# Altium footprint library QFN.PcbLib: 33 footprints (part 1 of 3)
Each footprint in its own frame and in the unit in brackets; x right, y up, seen from the top. Pads: shape width x height; smd on the part's side, far side on the other; paste and mask are expansions set on the pad; w line width, h text height; cw(c..) or ccw(c..) is an arc to the next point about the centre after c.
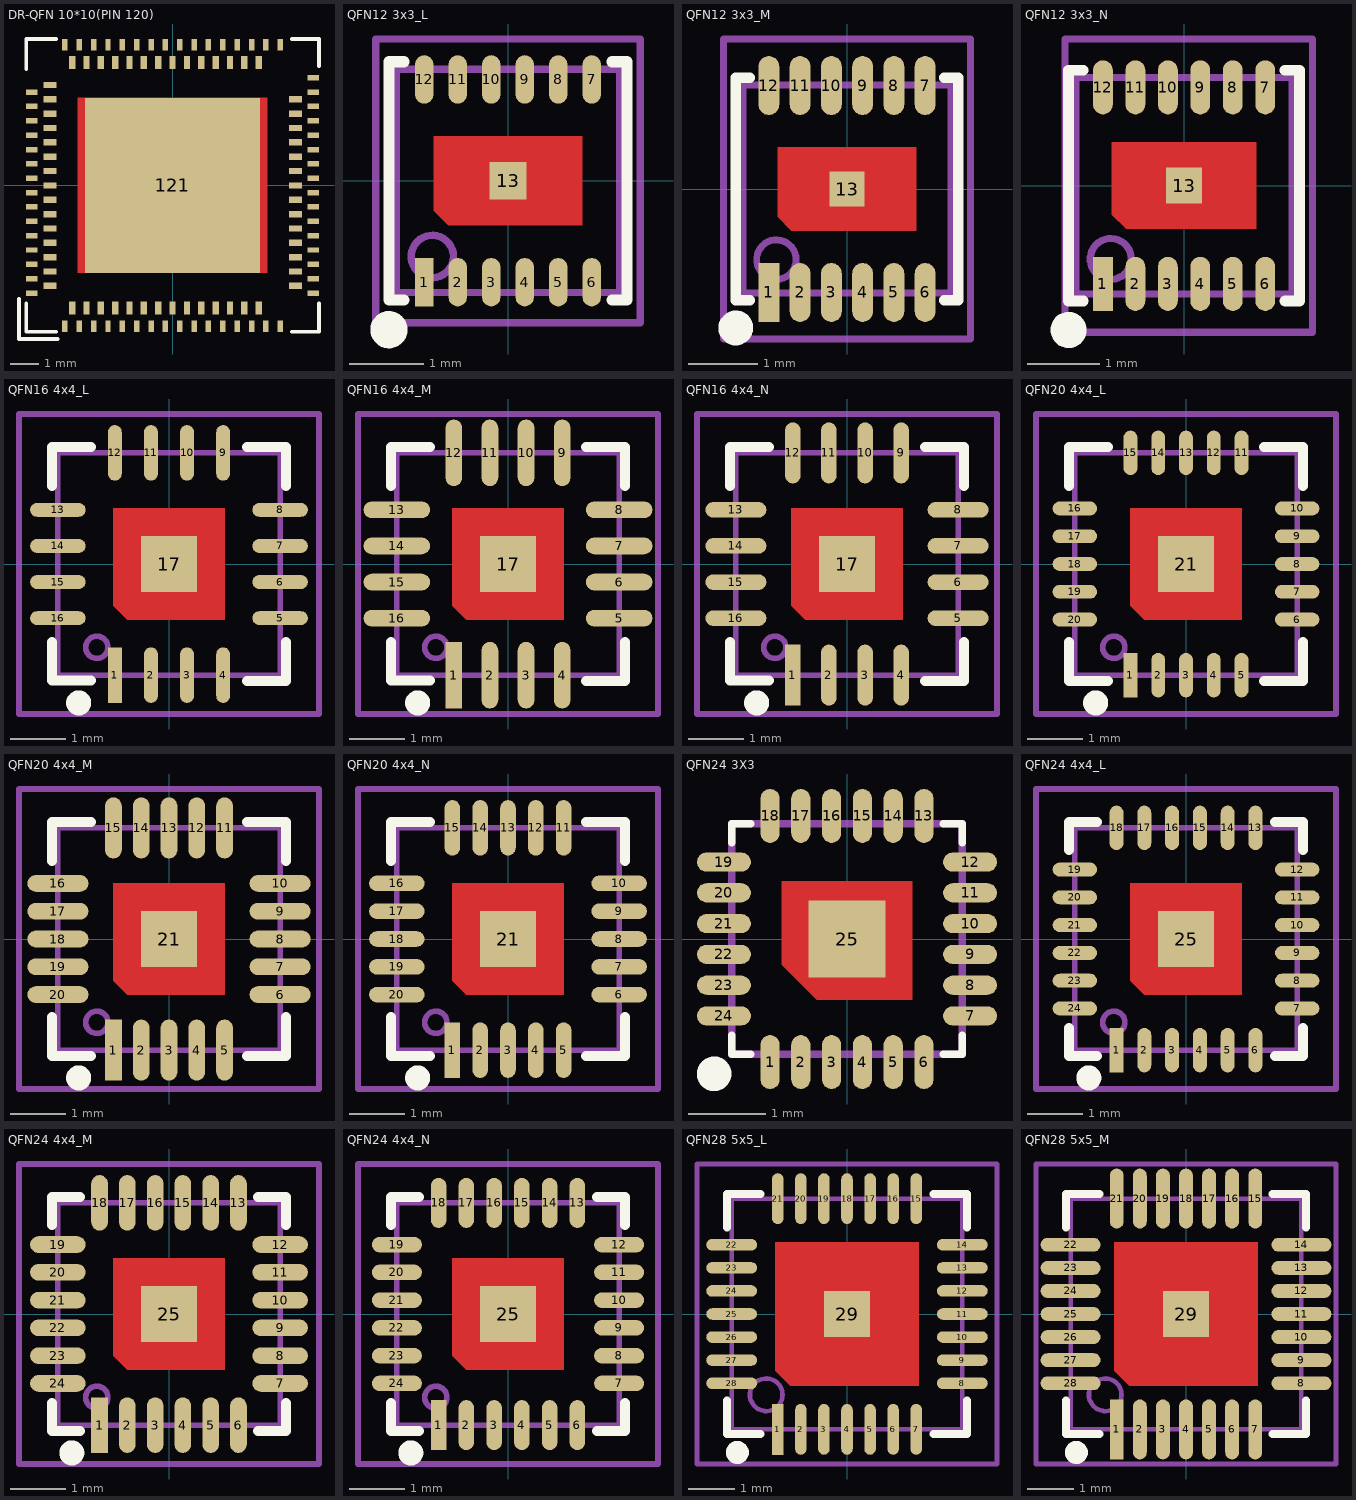
[diagram p0: the footprints below, top view; thin cyan lines are the x and y axes]

## DR-QFN 10*10(PIN 120) [mm]
height 0.9
pads (121):
  rect 0.19x0.4 smd: 1(-3.75,-4.9) 3(-3.25,-4.9) 5(-2.75,-4.9) 7(-2.25,-4.9) 9(-1.75,-4.9) 11(-1.25,-4.9) 13(-0.75,-4.9) 15(-0.25,-4.9) 17(0.25,-4.9) 19(0.75,-4.9) 21(1.25,-4.9) 23(1.75,-4.9) 25(2.25,-4.9) 27(2.75,-4.9) 29(3.25,-4.9) 30(3.75,-4.9) 61(3.75,4.9) 62(3.25,4.9) 64(2.75,4.9) 66(2.25,4.9) 68(1.75,4.9) 70(1.25,4.9) 72(0.75,4.9) 74(0.25,4.9) 76(-0.25,4.9) 78(-0.75,4.9) 80(-1.25,4.9) 82(-1.75,4.9) 84(-2.25,4.9) 86(-2.75,4.9) 88(-3.25,4.9) 90(-3.75,4.9)
  rect 0.22x0.45 smd: 2(-3.5,-4.275) 4(-3,-4.275) 6(-2.5,-4.275) 8(-2,-4.275) 10(-1.5,-4.275) 12(-1,-4.275) 14(-0.5,-4.275) 16(0,-4.275) 18(0.5,-4.275) 20(1,-4.275) 22(1.5,-4.275) 24(2,-4.275) 26(2.5,-4.275) 28(3,-4.275) 63(3,4.275) 65(2.5,4.275) 67(2,4.275) 69(1.5,4.275) 71(1,4.275) 73(0.5,4.275) 75(0,4.275) 77(-0.5,4.275) 79(-1,4.275) 81(-1.5,4.275) 83(-2,4.275) 85(-2.5,4.275) 87(-3,4.275) 89(-3.5,4.275)
  rect 0.4x0.19 smd: 31(4.9,-3.75) 33(4.9,-3.25) 35(4.9,-2.75) 37(4.9,-2.25) 39(4.9,-1.75) 41(4.9,-1.25) 43(4.9,-0.75) 45(4.9,-0.25) 47(4.9,0.25) 49(4.9,0.75) 51(4.9,1.25) 53(4.9,1.75) 55(4.9,2.25) 57(4.9,2.75) 59(4.9,3.25) 60(4.9,3.75) 92(-4.9,3.25) 94(-4.9,2.75) 96(-4.9,2.25) 98(-4.9,1.75) 100(-4.9,1.25) 102(-4.9,0.75) 104(-4.9,0.25) 106(-4.9,-0.25) 108(-4.9,-0.75) 110(-4.9,-1.25) 112(-4.9,-1.75) 114(-4.9,-2.25) 116(-4.9,-2.75) 118(-4.9,-3.25) 120(-4.9,-3.75)
  rect 0.45x0.22 smd: 32(4.275,-3.5) 34(4.275,-3) 36(4.275,-2.5) 38(4.275,-2) 40(4.275,-1.5) 42(4.275,-1) 44(4.275,-0.5) 46(4.275,0) 48(4.275,0.5) 50(4.275,1) 52(4.275,1.5) 54(4.275,2) 56(4.275,2.5) 58(4.275,3) 91(-4.275,3.5) 93(-4.275,3) 95(-4.275,2.5) 97(-4.275,2) 99(-4.275,1.5) 101(-4.275,1) 103(-4.275,0.5) 105(-4.275,0) 107(-4.275,-0.5) 109(-4.275,-1) 111(-4.275,-1.5) 113(-4.275,-2) 115(-4.275,-2.5) 117(-4.275,-3) 119(-4.275,-3.5)
  rect 6.1x6.1 smd: 121(0,0)
Top Layer:
  region: 3.3,3.05 -3.3,3.05 -3.3,-3.05 3.3,-3.05
Top Overlay:
  lines w0.127: -5.35,-3.95 -5.35,-5.35 -4,-5.35 ; -5.1,-4.1 -5.1,-5.1 -4.05,-5.1 ; -5.1,4.05 -5.1,5.1 -4.05,5.1 ; 4.15,-5.1 5.1,-5.1 5.1,-4.1 ; 4.15,5.1 5.1,5.1 5.1,4.15
Top Paste:
  region: -3.05,-1.2 -0.2,-1.2 -0.2,-2.8 -3.05,-2.8
  region: 0.2,-1.2 3.05,-1.2 3.05,-2.8 0.2,-2.8
  region: -3.05,0.8 -0.2,0.8 -0.2,-0.8 -3.05,-0.8
  region: 0.2,0.8 3.05,0.8 3.05,-0.8 0.2,-0.8
  region: -3.05,2.8 -0.2,2.8 -0.2,1.2 -3.05,1.2
  region: 0.2,2.8 3.05,2.8 3.05,1.2 0.2,1.2

## QFN12 3x3_L [mm] "12脚，长x宽x高：3x3x0.6mm，脚距：0.45mm"
pads (13):
  rect 0.25x0.65 smd: 1(-1.125,-1.362)
  oval 0.25x0.65 smd: 2(-0.675,-1.362) 3(-0.225,-1.362) 4(0.225,-1.362) 5(0.675,-1.362) 6(1.125,-1.362) 7(1.125,1.362) 8(0.675,1.362) 9(0.225,1.362) 10(-0.225,1.362) 11(-0.675,1.362) 12(-1.125,1.362)
  rect 0.5x0.5 smd: 13(0,0)
Top Layer:
  region: -1,0.6 1,0.6 1,-0.6 -0.8,-0.6 -1,-0.4
Top Overlay:
  circle w0.25: c-1.6,-2 r0.125
  lines w0.15: -1.397,-1.6 -1.6,-1.6 -1.6,1.6 -1.397,1.6 ; 1.397,-1.6 1.6,-1.6 1.6,1.6 1.397,1.6
Mechanical 13:
  circle w0.1: c-1.016,-1.016 r0.284
  lines w0.1: 1.5,-1.5 -1.49,-1.5 -1.5,-1.51 -1.5,1.5 1.5,1.5 ; 1.5,-1.5 1.5,-1.5 ; 1.5,-1.5 1.5,1.5 ; 1.5,1.5 1.5,1.5
Mechanical 15:
  circle w0.05: c0,0 r0.35
  lines w0.05: -0.5,0 0.5,0 ; 0,-0.5 0,0.5
  lines w0.1: -1.778,-1.905 -1.778,1.905 1.778,1.905 1.778,-1.905 -1.778,-1.905
3D body "QFN12 3x3.STEP": height 0.63, standoff 0, extent -1.5,-1.501 1.5,1.501

## QFN12 3x3_M [mm] "12脚，长x宽x高：3x3x0.6mm，脚距：0.45mm"
pads (13):
  rect 0.3x0.85 smd: 1(-1.125,-1.489)
  oval 0.3x0.85 smd: 2(-0.675,-1.489) 3(-0.225,-1.489) 4(0.225,-1.489) 5(0.675,-1.489) 6(1.125,-1.489) 7(1.125,1.489) 8(0.675,1.489) 9(0.225,1.489) 10(-0.225,1.489) 11(-0.675,1.489) 12(-1.125,1.489)
  rect 0.5x0.5 smd: 13(0,0)
Top Layer:
  region: -1,0.6 1,0.6 1,-0.6 -0.8,-0.6 -1,-0.4
Top Overlay:
  circle w0.25: c-1.6,-2 r0.125
  lines w0.15: -1.397,-1.6 -1.6,-1.6 -1.6,1.6 -1.397,1.6 ; 1.397,-1.6 1.6,-1.6 1.6,1.6 1.397,1.6
Mechanical 13:
  circle w0.1: c-1.016,-1.016 r0.284
  lines w0.1: 1.5,-1.5 1.5,1.5 ; 1.5,-1.5 1.5,-1.5 ; 1.5,-1.5 -1.49,-1.5 -1.5,-1.51 -1.5,1.5 1.5,1.5 ; 1.5,1.5 1.5,1.5
Mechanical 15:
  circle w0.05: c0,0 r0.35
  lines w0.05: -0.5,0 0.5,0 ; 0,-0.5 0,0.5
  lines w0.1: -1.778,-2.159 -1.778,2.159 1.778,2.159 1.778,-2.159 -1.778,-2.159
3D body "QFN12 3x3.STEP": height 0.63, standoff 0, extent -1.5,-1.501 1.5,1.501

## QFN12 3x3_N [mm] "12脚，长x宽x高：3x3x0.6mm，脚距：0.45mm"
pads (13):
  rect 0.275x0.75 smd: 1(-1.125,-1.362)
  oval 0.275x0.75 smd: 2(-0.675,-1.362) 3(-0.225,-1.362) 4(0.225,-1.362) 5(0.675,-1.362) 6(1.125,-1.362) 7(1.125,1.362) 8(0.675,1.362) 9(0.225,1.362) 10(-0.225,1.362) 11(-0.675,1.362) 12(-1.125,1.362)
  rect 0.5x0.5 smd: 13(0,0)
Top Layer:
  region: -1,0.6 1,0.6 1,-0.6 -0.8,-0.6 -1,-0.4
Top Overlay:
  circle w0.25: c-1.6,-2 r0.125
  lines w0.15: -1.397,-1.6 -1.6,-1.6 -1.6,1.6 -1.397,1.6 ; 1.397,-1.6 1.6,-1.6 1.6,1.6 1.397,1.6
Mechanical 13:
  circle w0.1: c-1.016,-1.016 r0.284
  lines w0.1: 1.5,-1.5 -1.49,-1.5 -1.5,-1.51 -1.5,1.5 1.5,1.5 ; 1.5,-1.5 1.5,-1.5 ; 1.5,-1.5 1.5,1.5 ; 1.5,1.5 1.5,1.5
Mechanical 15:
  circle w0.05: c0,0 r0.35
  lines w0.05: -0.5,0 0.5,0 ; 0,-0.5 0,0.5
  lines w0.1: -1.651,-2.032 -1.651,2.032 1.778,2.032 1.778,-2.032 -1.651,-2.032
3D body "QFN12 3x3.STEP": height 0.63, standoff 0, extent -1.5,-1.501 1.5,1.501

## QFN16 4x4_L [mm] "16脚，长x宽x高：4x4x0.8mm，脚距：0.65mm"
pads (17):
  rect 0.25x1 smd: 1(-0.975,-2)
  oval 0.25x1 smd: 2(-0.325,-2) 3(0.325,-2) 4(0.975,-2) 9(0.975,2) 10(0.325,2) 11(-0.325,2) 12(-0.975,2)
  oval 1x0.25 smd: 5(2,-0.975) 6(2,-0.325) 7(2,0.325) 8(2,0.975) 13(-2,0.975) 14(-2,0.325) 15(-2,-0.325) 16(-2,-0.975)
  rect 1x1 smd: 17(0,0)
Top Layer:
  region: -1,1 1,1 1,-1 -0.75,-1 -1,-0.75
Top Overlay:
  circle w0.25: c-1.625,-2.5 r0.1
  lines w0.178: -2.106,-1.404 -2.106,-2.1 -1.404,-2.1 ; -2.106,1.404 -2.106,2.106 -1.404,2.106 ; 1.404,-2.106 2.106,-2.106 2.106,-1.404 ; 1.404,2.106 2.106,2.106 2.106,1.404
Mechanical 13:
  circle w0.1: c-1.3,-1.5 r0.2
  lines w0.1: -2,-2 -2,2 2,2 2,-2 -2,-2
Mechanical 15:
  circle w0.05: c0,0 r0.35
  lines w0.05: -0.5,0 0.5,0 ; 0,-0.5 0,0.5
  lines w0.1: -2.7,-2.7 2.7,-2.7 2.7,2.7 -2.7,2.7 -2.7,-2.7
3D body "QFN16-4X4.STEP": height 0.75, standoff -0.05, extent -2.01,-2.01 2.01,2.01

## QFN16 4x4_M [mm] "16脚，长x宽x高：4x4x0.8mm，脚距：0.65mm"
pads (17):
  rect 0.3x1.2 smd: 1(-0.975,-2)
  oval 0.3x1.2 smd: 2(-0.325,-2) 3(0.325,-2) 4(0.975,-2) 9(0.975,2) 10(0.325,2) 11(-0.325,2) 12(-0.975,2)
  oval 1.2x0.3 smd: 5(2,-0.975) 6(2,-0.325) 7(2,0.325) 8(2,0.975) 13(-2,0.975) 14(-2,0.325) 15(-2,-0.325) 16(-2,-0.975)
  rect 1x1 smd: 17(0,0)
Top Layer:
  region: -1,1 1,1 1,-1 -0.75,-1 -1,-0.75
Top Overlay:
  circle w0.25: c-1.625,-2.5 r0.1
  lines w0.178: -2.106,-1.404 -2.106,-2.1 -1.404,-2.1 ; -2.106,1.404 -2.106,2.106 -1.404,2.106 ; 1.404,-2.106 2.106,-2.106 2.106,-1.404 ; 1.404,2.106 2.106,2.106 2.106,1.404
Mechanical 13:
  circle w0.1: c-1.3,-1.5 r0.2
  lines w0.1: -2,-2 -2,2 2,2 2,-2 -2,-2
Mechanical 15:
  circle w0.05: c0,0 r0.35
  lines w0.05: -0.5,0 0.5,0 ; 0,-0.5 0,0.5
  lines w0.1: -2.7,-2.7 2.7,-2.7 2.7,2.7 -2.7,2.7 -2.7,-2.7
3D body "QFN16-4X4.STEP": height 0.75, standoff -0.05, extent -2.01,-2.01 2.01,2.01

## QFN16 4x4_N [mm] "16脚，长x宽x高：4x4x0.8mm，脚距：0.65mm"
pads (17):
  rect 0.28x1.1 smd: 1(-0.975,-2)
  oval 0.28x1.1 smd: 2(-0.325,-2) 3(0.325,-2) 4(0.975,-2) 9(0.975,2) 10(0.325,2) 11(-0.325,2) 12(-0.975,2)
  oval 1.1x0.28 smd: 5(2,-0.975) 6(2,-0.325) 7(2,0.325) 8(2,0.975) 13(-2,0.975) 14(-2,0.325) 15(-2,-0.325) 16(-2,-0.975)
  rect 1x1 smd: 17(0,0)
Top Layer:
  region: -1,1 1,1 1,-1 -0.75,-1 -1,-0.75
Top Overlay:
  circle w0.25: c-1.625,-2.5 r0.1
  lines w0.178: -2.106,-1.404 -2.106,-2.1 -1.404,-2.1 ; -2.106,1.404 -2.106,2.106 -1.404,2.106 ; 1.404,-2.106 2.106,-2.106 2.106,-1.404 ; 1.404,2.106 2.106,2.106 2.106,1.404
Mechanical 13:
  circle w0.1: c-1.3,-1.5 r0.2
  lines w0.1: -2,-2 -2,2 2,2 2,-2 -2,-2
Mechanical 15:
  circle w0.05: c0,0 r0.35
  lines w0.05: -0.5,0 0.5,0 ; 0,-0.5 0,0.5
  lines w0.1: -2.7,-2.7 2.7,-2.7 2.7,2.7 -2.7,2.7 -2.7,-2.7
3D body "QFN16-4X4.STEP": height 0.75, standoff -0.05, extent -2.01,-2.01 2.01,2.01

## QFN20 4x4_L [mm] "20脚，长x宽x高：4x4x0.95mm，脚距：0.5mm"
pads (21):
  rect 0.25x0.8 smd: 1(-1,-2)
  oval 0.25x0.8 smd: 2(-0.5,-2) 3(0,-2) 4(0.5,-2) 5(1,-2) 11(1,2) 12(0.5,2) 13(0,2) 14(-0.5,2) 15(-1,2)
  oval 0.8x0.25 smd: 6(2,-1) 7(2,-0.5) 8(2,0) 9(2,0.5) 10(2,1) 16(-2,1) 17(-2,0.5) 18(-2,0) 19(-2,-0.5) 20(-2,-1)
  rect 1x1 smd: 21(0,0)
Top Layer:
  region: -1,1 1,1 1,-1 -0.75,-1 -1,-0.75
Top Overlay:
  circle w0.25: c-1.625,-2.5 r0.1
  lines w0.178: -2.106,-1.404 -2.106,-2.106 -1.404,-2.106 ; -2.106,1.404 -2.106,2.106 -1.404,2.106 ; 1.404,-2.106 2.106,-2.106 2.106,-1.404 ; 1.404,2.106 2.106,2.106 2.106,1.404
Mechanical 13:
  circle w0.1: c-1.3,-1.5 r0.2
  lines w0.1: -2,-2 -2,2 2,2 2,-2 -2,-2
Mechanical 15:
  circle w0.05: c0,0 r0.35
  lines w0.05: -0.5,0 0.5,0 ; 0,-0.5 0,0.5
  lines w0.1: -2.7,-2.7 2.7,-2.7 2.7,2.7 -2.7,2.7 -2.7,-2.7
3D body "QFN20-4X4.STEP": height 0.95, standoff -0.05, extent -2.01,-2.01 2.01,2.01

## QFN20 4x4_M [mm] "20脚，长x宽x高：4x4x0.95mm，脚距：0.5mm"
pads (21):
  rect 0.3x1.1 smd: 1(-1,-2)
  oval 0.3x1.1 smd: 2(-0.5,-2) 3(0,-2) 4(0.5,-2) 5(1,-2) 11(1,2) 12(0.5,2) 13(0,2) 14(-0.5,2) 15(-1,2)
  oval 1.1x0.3 smd: 6(2,-1) 7(2,-0.5) 8(2,0) 9(2,0.5) 10(2,1) 16(-2,1) 17(-2,0.5) 18(-2,0) 19(-2,-0.5) 20(-2,-1)
  rect 1x1 smd: 21(0,0)
Top Layer:
  region: -1,1 1,1 1,-1 -0.75,-1 -1,-0.75
Top Overlay:
  circle w0.25: c-1.625,-2.5 r0.1
  lines w0.178: -2.106,-1.404 -2.106,-2.106 -1.404,-2.106 ; -2.106,1.404 -2.106,2.106 -1.404,2.106 ; 1.404,-2.106 2.106,-2.106 2.106,-1.404 ; 1.404,2.106 2.106,2.106 2.106,1.404
Mechanical 13:
  circle w0.1: c-1.3,-1.5 r0.2
  lines w0.1: -2,-2 -2,2 2,2 2,-2 -2,-2
Mechanical 15:
  circle w0.05: c0,0 r0.35
  lines w0.05: -0.5,0 0.5,0 ; 0,-0.5 0,0.5
  lines w0.1: -2.7,-2.7 2.7,-2.7 2.7,2.7 -2.7,2.7 -2.7,-2.7
3D body "QFN20-4X4.STEP": height 0.95, standoff -0.05, extent -2.01,-2.01 2.01,2.01

## QFN20 4x4_N [mm] "20脚，长x宽x高：4x4x0.95mm，脚距：0.5mm"
pads (21):
  rect 0.28x1 smd: 1(-1,-2)
  oval 0.28x1 smd: 2(-0.5,-2) 3(0,-2) 4(0.5,-2) 5(1,-2) 11(1,2) 12(0.5,2) 13(0,2) 14(-0.5,2) 15(-1,2)
  oval 1x0.28 smd: 6(2,-1) 7(2,-0.5) 8(2,0) 9(2,0.5) 10(2,1) 16(-2,1) 17(-2,0.5) 18(-2,0) 19(-2,-0.5) 20(-2,-1)
  rect 1x1 smd: 21(0,0)
Top Layer:
  region: -1,1 1,1 1,-1 -0.75,-1 -1,-0.75
Top Overlay:
  circle w0.25: c-1.625,-2.5 r0.1
  lines w0.178: -2.106,-1.404 -2.106,-2.106 -1.404,-2.106 ; -2.106,1.404 -2.106,2.106 -1.404,2.106 ; 1.404,-2.106 2.106,-2.106 2.106,-1.404 ; 1.404,2.106 2.106,2.106 2.106,1.404
Mechanical 13:
  circle w0.1: c-1.3,-1.5 r0.2
  lines w0.1: -2,-2 -2,2 2,2 2,-2 -2,-2
Mechanical 15:
  circle w0.05: c0,0 r0.35
  lines w0.05: -0.5,0 0.5,0 ; 0,-0.5 0,0.5
  lines w0.1: -2.7,-2.7 2.7,-2.7 2.7,2.7 -2.7,2.7 -2.7,-2.7
3D body "QFN20-4X4.STEP": height 0.95, standoff -0.05, extent -2.01,-2.01 2.01,2.01

## QFN24 3X3 [mm] "24脚，长x宽x高：4x4x1mm，脚距：0.5mm"
pads (25):
  oval 0.25x0.7 smd: 1(-1,-1.6) 2(-0.6,-1.6) 3(-0.2,-1.6) 4(0.2,-1.6) 5(0.6,-1.6) 6(1,-1.6) 13(1,1.6) 14(0.6,1.6) 15(0.2,1.6) 16(-0.2,1.6) 17(-0.6,1.6) 18(-1,1.6)
  oval 0.7x0.25 smd: 7(1.6,-1) 8(1.6,-0.6) 9(1.6,-0.2) 10(1.6,0.2) 11(1.6,0.6) 12(1.6,1) 19(-1.6,1) 20(-1.6,0.6) 21(-1.6,0.2) 22(-1.6,-0.2) 23(-1.6,-0.6) 24(-1.6,-1)
  rect 1x1 smd: 25(0,0)
Top Layer:
  region: -0.849,0.753 -0.849,-0.332 -0.394,-0.787 0.851,-0.787 0.851,0.753
Top Overlay:
  circle w0.25: c-1.727,-1.753 r0.1
  lines w0.1: -1.5,-1.25 -1.5,-1.5 -1.25,-1.5 ; -1.5,1.25 -1.5,1.5 -1.25,1.5 ; 1.25,-1.5 1.5,-1.5 1.5,-1.25 ; 1.25,1.5 1.5,1.5 1.5,1.25
Top Solder:
  region: -0.849,0.753 -0.849,-0.332 -0.394,-0.787 0.851,-0.787 0.851,0.753
Mechanical 13:
  lines w0.1: -1.5,-1.5 -1.5,1.5 1.5,1.5 1.5,-1.5 -1.5,-1.5
Mechanical 15:
  circle w0.05: c0,0 r0.35
  lines w0.05: -0.5,0 0.5,0 ; 0,-0.5 0,0.5
3D body "QFN24-3X3.STEP": height 0.98, standoff -0.02, extent -1.5,-1.51 1.51,1.5

## QFN24 4x4_L [mm] "24脚，长x宽x高：4x4x1mm，脚距：0.5mm"
pads (25):
  rect 0.25x0.8 smd: 1(-1.25,-2)
  oval 0.25x0.8 smd: 2(-0.75,-2) 3(-0.25,-2) 4(0.25,-2) 5(0.75,-2) 6(1.25,-2) 13(1.25,2) 14(0.75,2) 15(0.25,2) 16(-0.25,2) 17(-0.75,2) 18(-1.25,2)
  oval 0.8x0.25 smd: 7(2,-1.25) 8(2,-0.75) 9(2,-0.25) 10(2,0.25) 11(2,0.75) 12(2,1.25) 19(-2,1.25) 20(-2,0.75) 21(-2,0.25) 22(-2,-0.25) 23(-2,-0.75) 24(-2,-1.25)
  rect 1x1 smd: 25(0,0)
Top Layer:
  region: -1,1 1,1 1,-1 -0.75,-1 -1,-0.75
Top Overlay:
  circle w0.25: c-1.75,-2.5 r0.1
  lines w0.178: -2.106,-1.6 -2.106,-2.106 -1.6,-2.106 ; -2.106,1.6 -2.106,2.106 -1.6,2.106 ; 1.6,-2.106 2.106,-2.106 2.106,-1.6 ; 1.6,2.106 2.106,2.106 2.106,1.6
Top Solder:
  region: -1,1 1,1 1,-1 -0.75,-1 -1,-0.75
Mechanical 13:
  circle w0.1: c-1.3,-1.5 r0.2
  lines w0.1: -2,-2 2,-2 2,2 -2,2 -2,-2
Mechanical 15:
  circle w0.05: c0,0 r0.35
  lines w0.05: -0.5,0 0.5,0 ; 0,-0.5 0,0.5
  lines w0.1: -2.7,-2.7 -2.7,2.7 2.7,2.7 2.7,-2.7 -2.7,-2.7
3D body "QFN24-4X4.STEP": height 0.95, standoff -0.05, extent -2.01,-2.01 2.01,2.01

## QFN24 4x4_M [mm] "24脚，长x宽x高：4x4x1mm，脚距：0.5mm"
pads (25):
  rect 0.3x1 smd: 1(-1.25,-2)
  oval 0.3x1 smd: 2(-0.75,-2) 3(-0.25,-2) 4(0.25,-2) 5(0.75,-2) 6(1.25,-2) 13(1.25,2) 14(0.75,2) 15(0.25,2) 16(-0.25,2) 17(-0.75,2) 18(-1.25,2)
  oval 1x0.3 smd: 7(2,-1.25) 8(2,-0.75) 9(2,-0.25) 10(2,0.25) 11(2,0.75) 12(2,1.25) 19(-2,1.25) 20(-2,0.75) 21(-2,0.25) 22(-2,-0.25) 23(-2,-0.75) 24(-2,-1.25)
  rect 1x1 smd: 25(0,0)
Top Layer:
  region: -1,1 1,1 1,-1 -0.75,-1 -1,-0.75
Top Overlay:
  circle w0.25: c-1.75,-2.5 r0.1
  lines w0.178: -2.106,-1.6 -2.106,-2.106 -1.6,-2.106 ; -2.106,1.6 -2.106,2.106 -1.6,2.106 ; 1.6,-2.106 2.106,-2.106 2.106,-1.6 ; 1.6,2.106 2.106,2.106 2.106,1.6
Top Solder:
  region: -1,1 1,1 1,-1 -0.75,-1 -1,-0.75
Mechanical 13:
  circle w0.1: c-1.3,-1.5 r0.2
  lines w0.1: -2,-2 2,-2 2,2 -2,2 -2,-2
Mechanical 15:
  circle w0.05: c0,0 r0.35
  lines w0.05: -0.5,0 0.5,0 ; 0,-0.5 0,0.5
  lines w0.1: -2.7,-2.7 -2.7,2.7 2.7,2.7 2.7,-2.7 -2.7,-2.7
3D body "QFN24-4X4.STEP": height 0.95, standoff -0.05, extent -2.01,-2.01 2.01,2.01

## QFN24 4x4_N [mm] "24脚，长x宽x高：4x4x1mm，脚距：0.5mm"
pads (25):
  rect 0.28x0.9 smd: 1(-1.25,-2)
  oval 0.28x0.9 smd: 2(-0.75,-2) 3(-0.25,-2) 4(0.25,-2) 5(0.75,-2) 6(1.25,-2) 13(1.25,2) 14(0.75,2) 15(0.25,2) 16(-0.25,2) 17(-0.75,2) 18(-1.25,2)
  oval 0.9x0.28 smd: 7(2,-1.25) 8(2,-0.75) 9(2,-0.25) 10(2,0.25) 11(2,0.75) 12(2,1.25) 19(-2,1.25) 20(-2,0.75) 21(-2,0.25) 22(-2,-0.25) 23(-2,-0.75) 24(-2,-1.25)
  rect 1x1 smd: 25(0,0)
Top Layer:
  region: -1,1 1,1 1,-1 -0.75,-1 -1,-0.75
Top Overlay:
  circle w0.25: c-1.75,-2.5 r0.1
  lines w0.178: -2.106,-1.6 -2.106,-2.106 -1.6,-2.106 ; -2.106,1.6 -2.106,2.106 -1.6,2.106 ; 1.6,-2.106 2.106,-2.106 2.106,-1.6 ; 1.6,2.106 2.106,2.106 2.106,1.6
Top Solder:
  region: -1,1 1,1 1,-1 -0.75,-1 -1,-0.75
Mechanical 13:
  circle w0.1: c-1.3,-1.5 r0.2
  lines w0.1: -2,-2 2,-2 2,2 -2,2 -2,-2
Mechanical 15:
  circle w0.05: c0,0 r0.35
  lines w0.05: -0.5,0 0.5,0 ; 0,-0.5 0,0.5
  lines w0.1: -2.7,-2.7 -2.7,2.7 2.7,2.7 2.7,-2.7 -2.7,-2.7
3D body "QFN24-4X4.STEP": height 0.95, standoff -0.05, extent -2.01,-2.01 2.01,2.01

## QFN28 5x5_L [mm] "28脚，长x宽x高：5x5x0.8mm，脚距：0.5mm"
pads (29):
  rect 0.25x1.1 smd: 1(-1.5,-2.5)
  oval 0.25x1.1 smd: 2(-1,-2.5) 3(-0.5,-2.5) 4(0,-2.5) 5(0.5,-2.5) 6(1,-2.5) 7(1.5,-2.5) 15(1.5,2.5) 16(1,2.5) 17(0.5,2.5) 18(0,2.5) 19(-0.5,2.5) 20(-1,2.5) 21(-1.5,2.5)
  oval 1.1x0.25 smd: 8(2.5,-1.5) 9(2.5,-1) 10(2.5,-0.5) 11(2.5,0) 12(2.5,0.5) 13(2.5,1) 14(2.5,1.5) 22(-2.5,1.5) 23(-2.5,1) 24(-2.5,0.5) 25(-2.5,0) 26(-2.5,-0.5) 27(-2.5,-1) 28(-2.5,-1.5)
  rect 1x1 smd: 29(0,0)
Top Layer:
  region: -1.55,1.55 1.55,1.55 1.55,-1.55 -1.225,-1.55 -1.55,-1.225
Top Overlay:
  circle w0.25: c-2.375,-3 r0.125
  lines w0.178: -2.6,-1.875 -2.6,-2.6 -1.875,-2.6 ; -2.6,1.875 -2.6,2.6 -1.875,2.6 ; 1.875,-2.6 2.6,-2.6 2.6,-1.875 ; 1.875,2.6 2.6,2.6 2.6,1.875
Mechanical 13:
  circle w0.1: c-1.75,-1.75 r0.354
  lines w0.1: -2.501,-2.501 2.501,-2.501 2.5,2.501 -2.501,2.501 -2.501,-2.501
Mechanical 15:
  circle w0.05: c0,0 r0.35
  lines w0.05: -0.5,0 0.5,0 ; 0,-0.5 0,0.5
  lines w0.1: -3.25,-3.25 -3.25,3.25 3.25,3.25 3.25,-3.25 -3.25,-3.25
3D body "QFN28-5X5.STEP": height 0.75, standoff -0.05, extent -2.51,-2.51 2.51,2.51

## QFN28 5x5_M [mm] "28脚，长x宽x高：5x5x0.8mm，脚距：0.5mm"
pads (29):
  rect 0.3x1.3 smd: 1(-1.5,-2.5)
  oval 0.3x1.3 smd: 2(-1,-2.5) 3(-0.5,-2.5) 4(0,-2.5) 5(0.5,-2.5) 6(1,-2.5) 7(1.5,-2.5) 15(1.5,2.5) 16(1,2.5) 17(0.5,2.5) 18(0,2.5) 19(-0.5,2.5) 20(-1,2.5) 21(-1.5,2.5)
  oval 1.3x0.3 smd: 8(2.5,-1.5) 9(2.5,-1) 10(2.5,-0.5) 11(2.5,0) 12(2.5,0.5) 13(2.5,1) 14(2.5,1.5) 22(-2.5,1.5) 23(-2.5,1) 24(-2.5,0.5) 25(-2.5,0) 26(-2.5,-0.5) 27(-2.5,-1) 28(-2.5,-1.5)
  rect 1x1 smd: 29(0,0)
Top Layer:
  region: -1.55,1.55 1.55,1.55 1.55,-1.55 -1.225,-1.55 -1.55,-1.225
Top Overlay:
  circle w0.25: c-2.375,-3 r0.125
  lines w0.178: -2.6,-1.875 -2.6,-2.6 -1.875,-2.6 ; -2.6,1.875 -2.6,2.6 -1.875,2.6 ; 1.875,-2.6 2.6,-2.6 2.6,-1.875 ; 1.875,2.6 2.6,2.6 2.6,1.875
Mechanical 13:
  circle w0.1: c-1.75,-1.75 r0.354
  lines w0.1: -2.501,-2.501 2.501,-2.501 2.5,2.501 -2.501,2.501 -2.501,-2.501
Mechanical 15:
  circle w0.05: c0,0 r0.35
  lines w0.05: -0.5,0 0.5,0 ; 0,-0.5 0,0.5
  lines w0.1: -3.25,-3.25 -3.25,3.25 3.25,3.25 3.25,-3.25 -3.25,-3.25
3D body "QFN28-5X5.STEP": height 0.75, standoff -0.05, extent -2.51,-2.51 2.51,2.51